# Altium schematic symbol library BC847.SchLib: 1 symbol
Pins are listed as number, name and electrical type; pins without a type are passive.

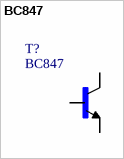
[diagram p0: symbol BC847]

## BC847
designator T?
MF: Nexperia USA; SnapEDA_Link: https://www.snapeda.com/parts/BC847/Nexperia%20USA%20Inc./view-part/?ref=snap; Availability: Unavailable; Price: None; Package: SOT-323 Rectron; MP: BC847; Value: *
footprint *SOT23
pins: 1 B, 2 E, 3 C